# Altium footprint library TQFP22X22-112.PcbLib: 1 footprints
Each footprint in its own frame and in the unit in brackets; x right, y up, seen from the top. Pads: shape width x height; smd on the part's side, far side on the other; paste and mask are expansions set on the pad; w line width, h text height; cw(c..) or ccw(c..) is an arc to the next point about the centre after c.
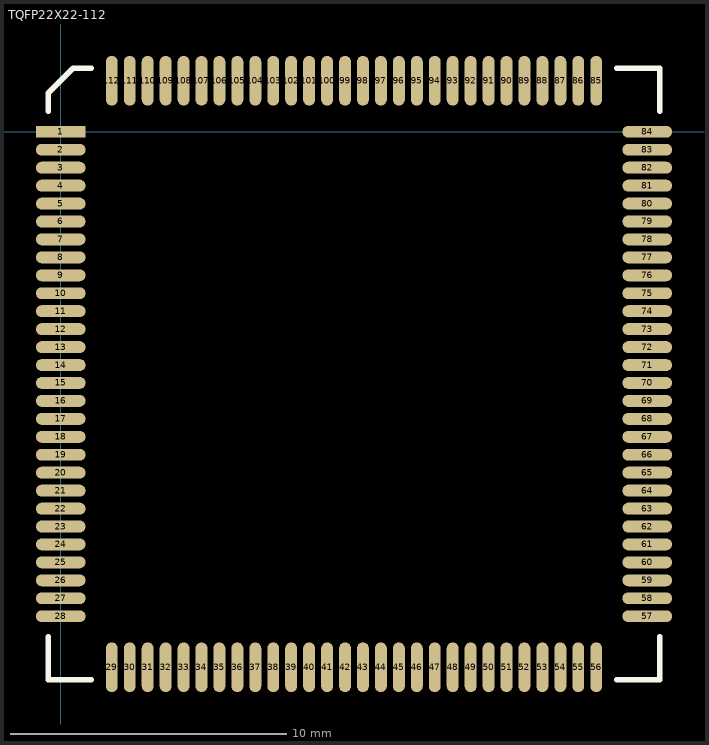
[diagram p0: the footprint, top view; thin cyan lines are the x and y axes]

## TQFP22X22-112 [mil]
pads (112):
  rect 71x17 smd: 1(0,0)
  oval 71x17 smd: 2(0,-25.59) 3(0,-51.18) 4(0,-76.77) 5(0,-102.36) 6(0,-127.95) 7(0,-153.54) 8(0,-179.13) 9(0,-204.72) 10(0,-230.31) 11(0,-255.91) 12(0,-281.5) 13(0,-307.09) 14(0,-332.68) 15(0,-358.27) 16(0,-383.86) 17(0,-409.45) 18(0,-435.04) 19(0,-460.63) 20(0,-486.22) 21(0,-511.81) 22(0,-537.4) 23(0,-562.99) 24(0,-588.58) 25(0,-614.17) 26(0,-639.76) 27(0,-665.36) 28(0,-690.95) 57(836.62,-690.95) 58(836.62,-665.36) 59(836.62,-639.76) 60(836.62,-614.17) 61(836.62,-588.58) 62(836.62,-562.99) 63(836.62,-537.4) 64(836.62,-511.81) 65(836.62,-486.22) 66(836.62,-460.63) 67(836.62,-435.04) 68(836.62,-409.45) 69(836.62,-383.86) 70(836.62,-358.27) 71(836.62,-332.68) 72(836.62,-307.09) 73(836.62,-281.5) 74(836.62,-255.91) 75(836.62,-230.31) 76(836.62,-204.72) 77(836.62,-179.13) 78(836.62,-153.54) 79(836.62,-127.95) 80(836.62,-102.36) 81(836.62,-76.77) 82(836.62,-51.18) 83(836.62,-25.59) 84(836.62,0)
  oval 17x71 smd: 29(72.83,-763.78) 30(98.42,-763.78) 31(124.02,-763.78) 32(149.61,-763.78) 33(175.2,-763.78) 34(200.79,-763.78) 35(226.38,-763.78) 36(251.97,-763.78) 37(277.56,-763.78) 38(303.15,-763.78) 39(328.74,-763.78) 40(354.33,-763.78) 41(379.92,-763.78) 42(405.51,-763.78) 43(431.1,-763.78) 44(456.69,-763.78) 45(482.28,-763.78) 46(507.88,-763.78) 47(533.47,-763.78) 48(559.06,-763.78) 49(584.65,-763.78) 50(610.24,-763.78) 51(635.83,-763.78) 52(661.42,-763.78) 53(687.01,-763.78) 54(712.6,-763.78) 55(738.19,-763.78) 56(763.78,-763.78) 85(763.78,72.83) 86(738.19,72.83) 87(712.6,72.83) 88(687.01,72.83) 89(661.42,72.83) 90(635.83,72.83) 91(610.24,72.83) 92(584.65,72.83) 93(559.06,72.83) 94(533.47,72.83) 95(507.88,72.83) 96(482.28,72.83) 97(456.69,72.83) 98(431.1,72.83) 99(405.51,72.83) 100(379.92,72.83) 101(354.33,72.83) 102(328.74,72.83) 103(303.15,72.83) 104(277.56,72.83) 105(251.97,72.83) 106(226.38,72.83) 107(200.79,72.83) 108(175.2,72.83) 109(149.61,72.83) 110(124.02,72.83) 111(98.42,72.83) 112(72.83,72.83)
TopOverlay:
  lines w8: -17.72,-720.47 -17.72,-781.5 43.31,-781.5 ; -17.72,29.53 -17.72,55.12 17.72,90.55 43.31,90.55 ; 793.31,-781.5 854.33,-781.5 854.33,-720.47 ; 793.31,90.55 854.33,90.55 854.33,29.53
Mechanical4:
  text ".065" at 0.23,0 h1
  text ".047" at 0,0 h1
3D body: height 55.12, standoff -3.94, extent -18.06,-777.06 850,91